# EAGLE library part MAX98357AEWL+ (library MAX98357AEWL__v3)
None
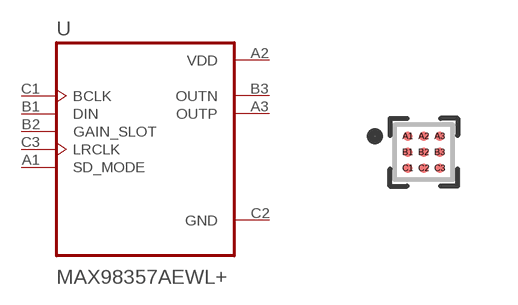
[diagram p0: symbol with the pads of BGA9N40P3X3_134X143X69N; footprint BGA9N40P3X3_134X143X69N]

Designator prefix U

## MAX98357AEWL+ (AVAILABILITY: Unavailable; DESCRIPTION: Audio Amp Speaker 1-CH Mono Class-D 9-Pin WLP; MF: Maxim Integrated; MP: MAX98357AEWL+; PACKAGE: WLP-9 Maxim; PRICE: None)  [BGA9N40P3X3_134X143X69N]
A1  SD_MODE  in
A2  VDD  pwr
A3  OUTP  out
B1  DIN  in
B2  GAIN_SLOT  in
B3  OUTN  out
C1  BCLK  in
C2  GND  pwr
C3  LRCLK  in

## Footprint BGA9N40P3X3_134X143X69N (pad centres in mm)
smd 0.241 x 0.241: A1 -0.4,0.4; A2 0,0.4; A3 0.4,0.4; B1 -0.4,0; B2 0,0; B3 0.4,0; C1 -0.4,-0.4; C2 0,-0.4; C3 0.4,-0.4